# EAGLE library part STM32F031F6P7 (library circuit_tree)
IC
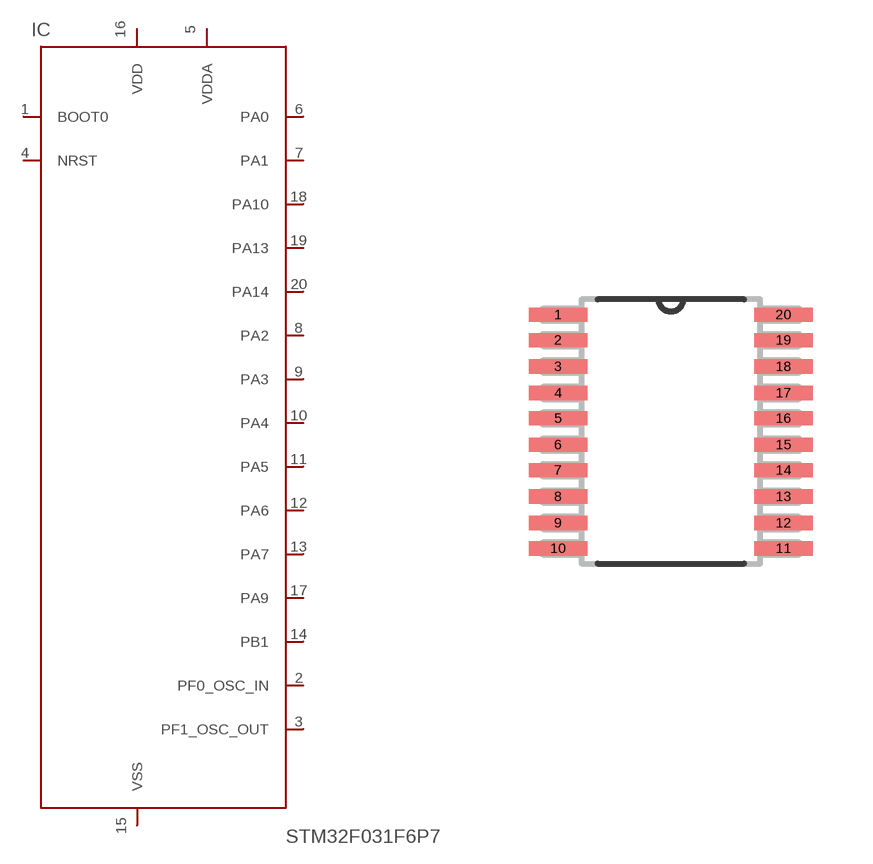
[diagram p4: symbol with the pads of TSSOP20; footprint TSSOP20]

Designator prefix IC

## STM32F031F6P7  [TSSOP20]
1  BOOT0  pas
2  PF0_OSC_IN  pas
3  PF1_OSC_OUT  pas
4  NRST  pas
5  VDDA  pas
6  PA0  pas
7  PA1  pas
8  PA2  pas
9  PA3  pas
10  PA4  pas
11  PA5  pas
12  PA6  pas
13  PA7  pas
14  PB1  pas
15  VSS  pas
16  VDD  pas
17  PA9  pas
18  PA10  pas
19  PA13  pas
20  PA14  pas

## Footprint TSSOP20 (pad centres in mm)
smd 1.473 x 0.356: 1 -2.819,2.921; 2 -2.819,2.286; 3 -2.819,1.626; 4 -2.819,0.965; 5 -2.819,0.33; 6 -2.819,-0.33; 7 -2.819,-0.965; 8 -2.819,-1.626; 9 -2.819,-2.286; 10 -2.819,-2.921; 11 2.819,-2.921; 12 2.819,-2.286; 13 2.819,-1.626; 14 2.819,-0.965; 15 2.819,-0.33; 16 2.819,0.33; 17 2.819,0.965; 18 2.819,1.626; 19 2.819,2.286; 20 2.819,2.921